# EAGLE library part 66202221022 (library Wurth_Elektronik_Electromechanic_Wire_to_Board_Connectors_rev16a)
WR-MPC3 3.00mm Male Dual Row Angled Header with Plastic Pegs, 22 Pins=>Code : Con_WTB-MPC3_2_PCB_THT66202221022 <http://katalog.we-online.de/media/thumbs2/eican/thb_Con_WTB-MPC3_2_PCB_THT86220xx21022_pf2.jpg> Details see: http://katalog.we-online.de/en/em/662_0xx_210_22 Created 2014-06-06, Karrer Zheng 2014 (C) Würth Elektronik
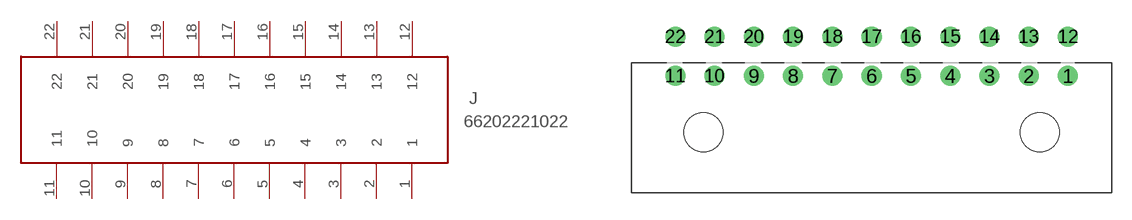
[diagram p395: symbol with the pads of 66202221022; footprint 66202221022]

Designator prefix J

## 66202221022  [66202221022]
1  1  pas
2  2  pas
3  3  pas
4  4  pas
5  5  sup
6  6  pas
7  7  pas
8  8  pas
9  9  pas
10  10  pas
11  11  pas
12  12  pas
13  13  pas
14  14  pas
15  15  pas
16  16  pas
17  17  pas
18  18  hiz
19  19  pas
20  20  pas
21  21  pas
22  22  pas

## Footprint 66202221022 (pad centres in mm)
WR-MPC3 3.00mm Male Dual Row Angled Header with Plastic Pegs, 22 Pins
drill 1.02: 1 15,4.3; 2 12,4.3; 3 9,4.3; 4 6,4.3; 5 3,4.3; 6 0,4.3; 7 -3,4.3; 8 -6,4.3; 9 -9,4.3; 10 -12,4.3; 11 -15,4.3; 12 15,7.3; 13 12,7.3; 14 9,7.3; 15 6,7.3; 16 3,7.3; 17 0,7.3; 18 -3,7.3; 19 -6,7.3; 20 -9,7.3; 21 -12,7.3; 22 -15,7.3
hole 3 at 12.85,0
hole 3 at -12.85,0